# EAGLE library part MAX20040DATPA/VY+ (library Analog_Devices)
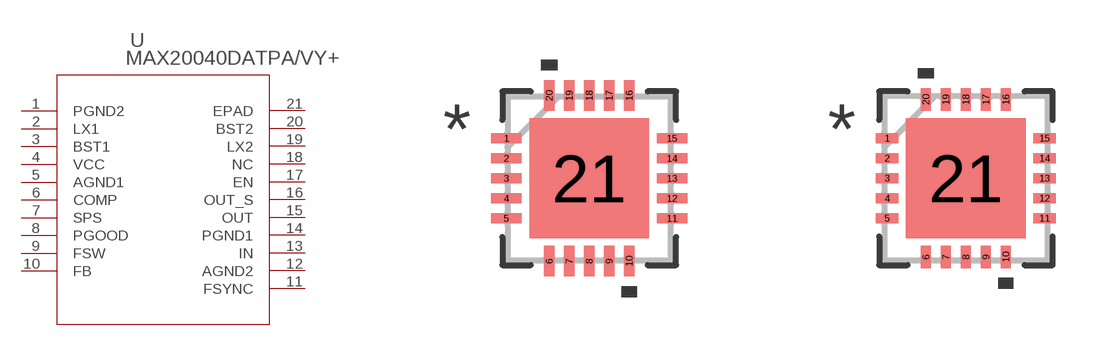
[diagram p0: symbol with the pads of 21-100068B_T2044Y+4C_MXM-M; footprints 21-100068B_T2044Y+4C_MXM-M, 21-100068B_T2044Y+4C_MXM-L]

Designator prefix U

## MAX20040DATPA/VY+_M (COPYRIGHT: Copyright (C) 2023 Ultra Librarian. All rights reserved.; MANUFACTURER_PART_NUMBER: MAX20040DATPA/VY+; MFR_NAME: Analog Devices Inc)  [21-100068B_T2044Y+4C_MXM-M]
1  PGND2  pwr
2  LX1  pas
3  BST1  pas
4  VCC  pwr
5  AGND1  pwr
6  COMP  pas
7  SPS  pas
8  PGOOD  out
9  FSW  pas
10  FB  in
11  FSYNC  in
12  AGND2  pwr
13  IN  in
14  PGND1  pwr
15  OUT  out
16  OUT_S  out
17  EN  in
18  NC  nc
19  LX2  out
20  BST2  pas
21  EPAD  pas

## MAX20040DATPA/VY+_ (COPYRIGHT: Copyright (C) 2023 Ultra Librarian. All rights reserved.; MANUFACTURER_PART_NUMBER: MAX20040DATPA/VY+; MFR_NAME: Analog Devices Inc)  [21-100068B_T2044Y+4C_MXM-L]
Pads as for 21-100068B_T2044Y+4C_MXM-M

## Footprint 21-100068B_T2044Y+4C_MXM-M (pad centres in mm)
smd 0.762 x 0.254: 1 -2.07,1; 2 -2.07,0.5; 3 -2.07,0; 4 -2.07,-0.5; 5 -2.07,-1; 11 2.07,-1; 12 2.07,-0.5; 13 2.07,0; 14 2.07,0.5; 15 2.07,1
smd 0.254 x 0.762: 6 -1,-2.07; 7 -0.5,-2.07; 8 0,-2.07; 9 0.5,-2.07; 10 1,-2.07; 16 1,2.07; 17 0.5,2.07; 18 0,2.07; 19 -0.5,2.07; 20 -1,2.07
smd 2.997 x 2.997: 21 0,0

## Footprint 21-100068B_T2044Y+4C_MXM-L (pad centres in mm)
smd 0.559 x 0.254: 1 -1.968,1; 2 -1.968,0.5; 3 -1.968,0; 4 -1.968,-0.5; 5 -1.968,-1; 11 1.968,-1; 12 1.968,-0.5; 13 1.968,0; 14 1.968,0.5; 15 1.968,1
smd 0.254 x 0.559: 6 -1,-1.968; 7 -0.5,-1.968; 8 0,-1.968; 9 0.5,-1.968; 10 1,-1.968; 16 1,1.968; 17 0.5,1.968; 18 0,1.968; 19 -0.5,1.968; 20 -1,1.968
smd 2.997 x 2.997: 21 0,0